# Altium footprint library USSTPartsPcb.PcbLib: 11 footprints
Each footprint in its own frame and in the unit in brackets; x right, y up, seen from the top. Pads: shape width x height; smd on the part's side, far side on the other; paste and mask are expansions set on the pad; w line width, h text height; cw(c..) or ccw(c..) is an arc to the next point about the centre after c.
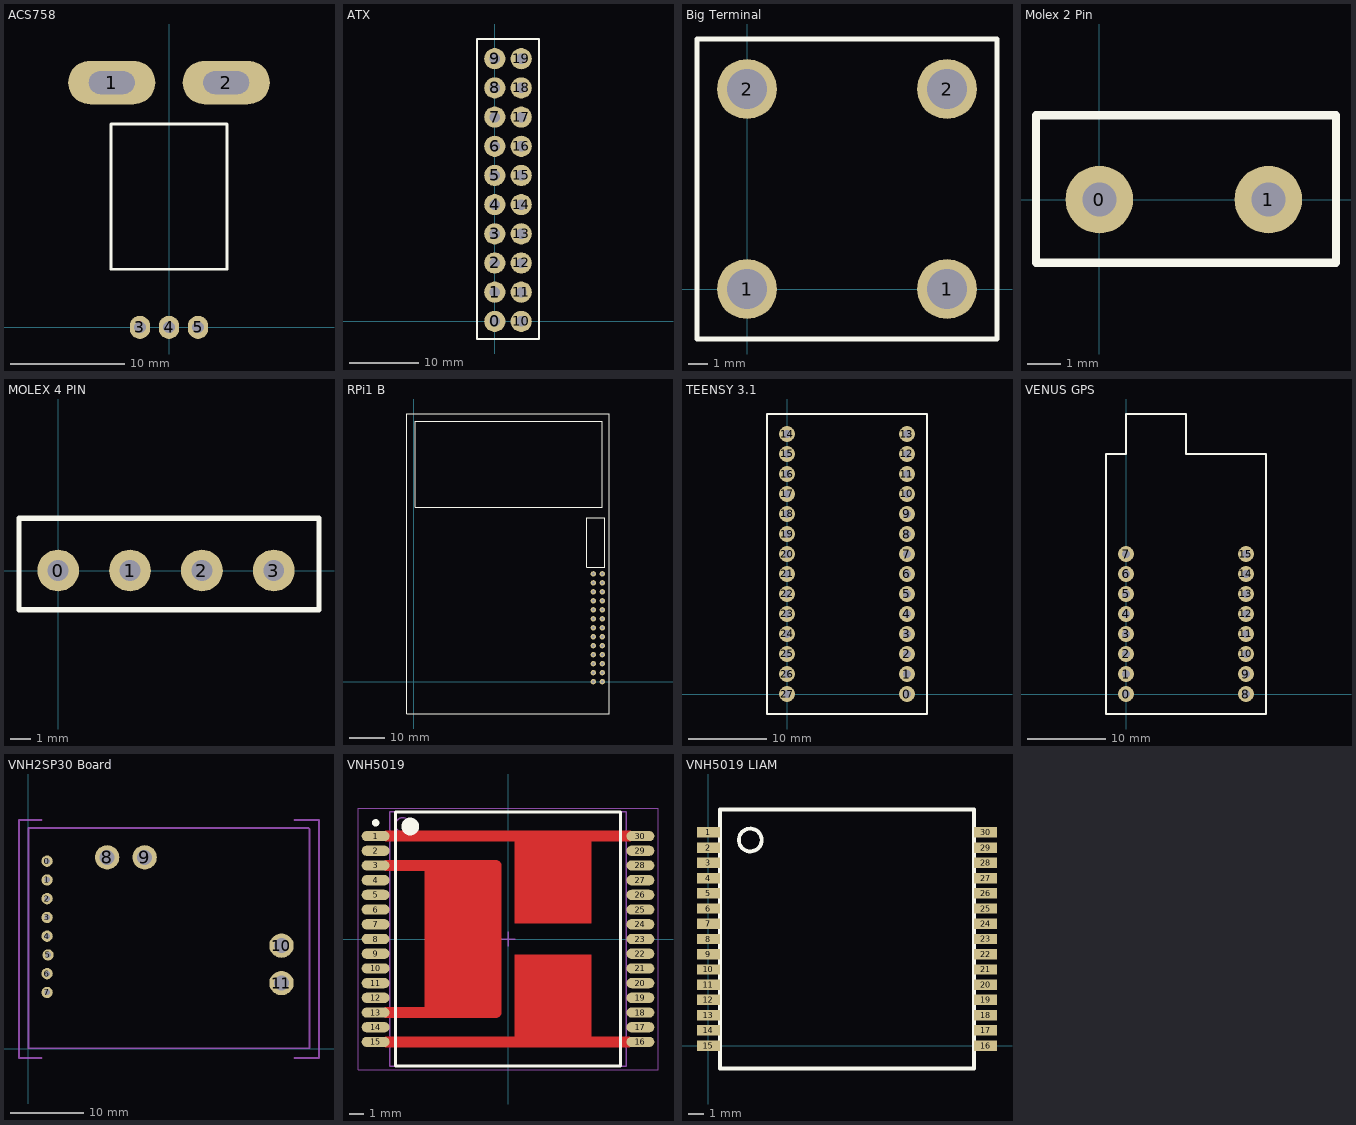
[diagram p0: the footprints below, top view; thin cyan lines are the x and y axes]

## ACS758 [mil]
pads (5):
  oval 300x150 hole 78.74 slot 157.48 at 0 deg: 1(-196.85,842.52) 2(196.85,842.52)
  oval 70x80 hole 40: 3(-100,0) 4(0,0) 5(100,0)
Top Overlay:
  lines w10: -200,200 -200,700 200,700 200,200 -200,200

## ATX [mil]
pads (20):
  round 120 hole 59.06: 0(0,0) 1(0,165.35) 2(0,330.71) 3(0,496.06) 4(0,661.42) 5(0,826.77) 6(0,992.13) 7(0,1157.48) 8(0,1322.83) 9(0,1488.19) 10(150,0) 11(150,165.35) 12(150,330.71) 13(150,496.06) 14(150,661.42) 15(150,826.77) 16(150,992.13) 17(150,1157.48) 18(150,1322.83) 19(150,1488.19)
Top Overlay:
  lines w10: -100,-100 -100,1600 250,1600 250,-100 -100,-100

## Big Terminal [mil]
pads (4):
  round 120 hole 80: 1(0,0) 1(400,0) 2(0,400) 2(400,400)
Top Overlay:
  lines w10: -100,-100 500,-100 500,500 -100,500 -100,-100

## Molex 2 Pin [mil]
pads (2):
  round 80 hole 40: 0(0,0) 1(200,0)
Top Overlay:
  lines w10: -75,-75 280,-75 280,100 -75,100 -75,-75

## MOLEX 4 PIN [mil]
pads (4):
  round 80 hole 40: 0(0,0) 1(137.8,0) 2(275.59,0) 3(413.39,0)
Top Overlay:
  lines w10: -75,-75 -75,100 500,100 500,-75 -75,-75

## RPi1 B [mil]
pads (26):
  round 60 hole 30: 0(2000,0) 1(2100,0) 2(2000,100) 3(2100,100) 4(2000,200) 5(2100,200) 6(2000,300) 7(2100,300) 8(2000,400) 9(2100,400) 10(2000,500) 11(2100,500) 12(2000,600) 13(2100,600) 14(2000,700) 15(2100,700) 16(2000,800) 17(2100,800) 18(2000,900) 19(2100,900) 20(2000,1000) 21(2100,1000) 22(2000,1100) 23(2100,1100) 24(2000,1200) 25(2100,1200)
Top Overlay:
  lines w10: -80,-360 -80,2980 2180,2980 2180,-360 -80,-360 ; 20,1940 20,2900 2100,2900 2100,1940 20,1940 ; 1925,1275 2125,1275 2125,1825 1925,1825 1925,1275

## TEENSY 3.1 [mil]
pads (28):
  round 80 hole 40: 0(600,0) 1(600,100) 2(600,200) 3(600,300) 4(600,400) 5(600,500) 6(600,600) 7(600,700) 8(600,800) 9(600,900) 10(600,1000) 11(600,1100) 12(600,1200) 13(600,1300) 14(0,1300) 15(0,1200) 16(0,1100) 17(0,1000) 18(0,900) 19(0,800) 20(0,700) 21(0,600) 22(0,500) 23(0,400) 24(0,300) 25(0,200) 26(0,100) 27(0,0)
Top Overlay:
  lines w10: -100,-100 700,-100 700,1400 -100,1400 -100,-100

## VENUS GPS [mil]
pads (16):
  round 80 hole 40: 0(0,0) 1(0,100) 2(0,200) 3(0,300) 4(0,400) 5(0,500) 6(0,600) 7(0,700) 8(600,0) 9(600,100) 10(600,200) 11(600,300) 12(600,400) 13(600,500) 14(600,600) 15(600,700)
Top Overlay:
  lines w10: -100,-100 700,-100 700,1200 500,1200 300,1200 300,1400 100,1400 0,1400 0,1200 -100,1200 -100,-100

## VNH2SP30 Board [mil] "Motor Controller, H-Bridge, USST"
pads (12):
  round 60 hole 30: 0(100,1000) 1(100,900) 2(100,800) 3(100,700) 4(100,600) 5(105,500) 6(100,400) 7(100,300)
  round 130 hole 80: 8(420,1020) 9(620,1020) 10(1350,550) 11(1350,350)
Mechanical 1:
  lines w10: -30,1220 10,1220 ; 70,-50 -50,-50 -50,1220 70,1220 ; 1420,-50 1550,-50 1550,1220 1420,1220 ; 0,2.5 1500,2.5 1500,1170 1492.5,1177.5 0,1177.5 0,2.5

## VNH5019 [mm] "MultiPowerSO-30"
height 2.35
pads (30):
  oval 1.9x0.7 smd: 1(-9,7) 2(-9,6) 3(-9,5) 4(-9,4) 5(-9,3) 6(-9,2) 7(-9,1) 8(-9,0) 9(-9,-1) 10(-9,-2) 11(-9,-3) 12(-9,-4) 13(-9,-5) 14(-9,-6) 15(-9,-7) 16(9,-7) 17(9,-6) 18(9,-5) 19(9,-4) 20(9,-3) 21(9,-2) 22(9,-1) 23(9,0) 24(9,1) 25(9,2) 26(9,3) 27(9,4) 28(9,5) 29(9,6) 30(9,7)
Top Layer:
  rectangle: 0.425,1.05 5.675,7.28
  rectangle: -5.675,-5.15 -0.425,5.15
  rectangle: 0.425,-7.28 5.675,-1.05
  lines w0.75: -8.25,-7 8.2,-7 ; -8.25,-5 -0.8,-5 ; -8.25,5 -0.8,5 ; -8.25,7 8.25,7
Top Overlay:
  circle w0.25: c-9,7.9 r0.125
  circle w0.6: c-6.65,7.65 r0.3
  lines w0.2: -7.65,-8.65 -7.65,8.65 7.65,8.65 7.65,-8.65 -7.65,-8.65
Mechanical 13:
  circle w0.1: c-7.15,7.75 r0.5
  lines w0.1: -8.05,-8.65 -8.05,8.65 8.05,8.65 8.05,-8.65 -8.05,-8.65
Mechanical 15:
  lines w0.05: -10.2,-8.9 -10.2,8.9 10.2,8.9 10.2,-8.9 -10.2,-8.9
  lines w0.1: -0.5,0 0.5,0 ; 0,-0.5 0,0.5
3D body: height 2.35, standoff 0.1, extent -8.05,-8.65 8.05,8.65

## VNH5019 LIAM [mm] "VNH5019 motor driver"
pads (30):
  rect 1.5x0.68 smd: 1(0,14) 2(0,13) 3(0,12) 4(0,11) 5(0,10) 6(0,9) 7(0,8) 8(0,7) 9(0,6) 10(0,5) 11(0,4) 12(0,3) 13(0,2) 14(0,1) 15(0,0) 16(18.2,0) 17(18.2,1) 18(18.2,2) 19(18.2,3) 20(18.2,4) 21(18.2,5) 22(18.2,6) 23(18.2,7) 24(18.2,8) 25(18.2,9) 26(18.2,10) 27(18.2,11) 28(18.2,12) 29(18.2,13) 30(18.2,14)
Top Overlay:
  circle w0.254: c2.75,13.5 r0.75
  lines w0.254: 0.75,-1.25 0.75,0 ; 0.75,14 0.75,15.5 16.95,15.5 17.45,15.5 17.45,14 ; 0.75,15 0.75,14.25 0.75,0 ; 17.45,14.25 17.45,0 17.45,-1.5 0.75,-1.5 0.75,0